# Altium footprint library LCC封装库.PcbLib: 3 footprints
Each footprint in its own frame and in the unit in brackets; x right, y up, seen from the top. Pads: shape width x height; smd on the part's side, far side on the other; paste and mask are expansions set on the pad; w line width, h text height; cw(c..) or ccw(c..) is an arc to the next point about the centre after c.
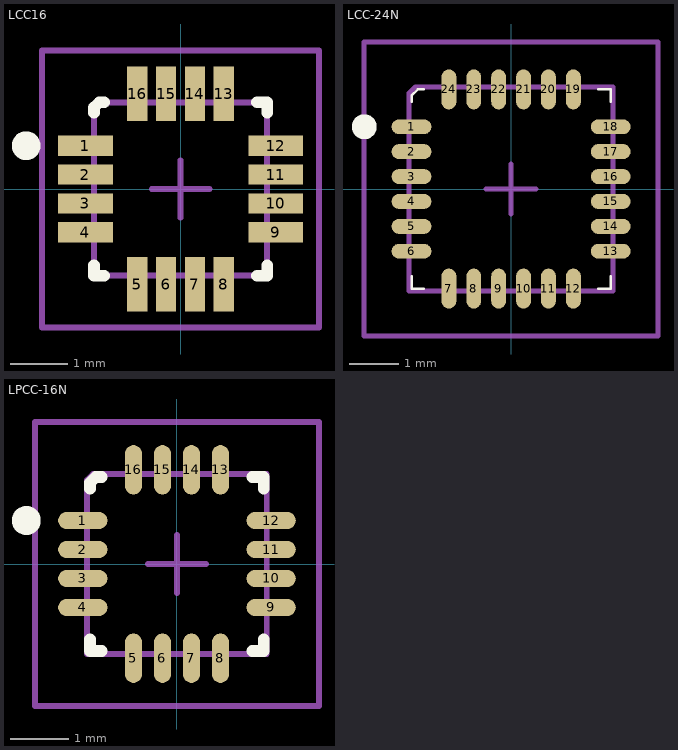
[diagram p0: the footprints below, top view; thin cyan lines are the x and y axes]

## LCC16 [mm] "LCC, 16-Pins, Body 3.0x3.0mm (max), Pitch 0.50mm, IPC Medium Density"
height 1
pads (16):
  rect 0.95x0.35 smd: 1(-1.65,0.75) 2(-1.65,0.25) 3(-1.65,-0.25) 4(-1.65,-0.75) 9(1.65,-0.75) 10(1.65,-0.25) 11(1.65,0.25) 12(1.65,0.75)
  rect 0.35x0.95 smd: 5(-0.75,-1.65) 6(-0.25,-1.65) 7(0.25,-1.65) 8(0.75,-1.65) 13(0.75,1.65) 14(0.25,1.65) 15(-0.25,1.65) 16(-0.75,1.65)
Top Overlay:
  circle w0.25: c-2.675,0.75 r0.125
  lines w0.2: -1.5,-1.325 -1.5,-1.5 -1.325,-1.5 ; -1.5,1.325 -1.5,1.412 -1.412,1.5 -1.325,1.5 ; 1.325,-1.5 1.5,-1.5 1.5,-1.325 ; 1.325,1.5 1.5,1.5 1.5,1.325
Mechanical 13:
  lines w0.1: -1.5,-1.5 1.5,-1.5 1.5,1.5 -1.412,1.5 -1.5,1.412 -1.5,-1.5
Mechanical 15:
  lines w0.1: -0.5,0 0.5,0 ; 0,-0.5 0,0.5 ; -2.4,-2.4 2.4,-2.4 2.4,2.4 -2.4,2.4 -2.4,-2.4
3D body: height 1, standoff 0, extent -1.5,-1.5 1.5,1.5

## LCC-24N [mm] "LCC, 24-Pins, Body 4.2x4.2mm (max), Pitch 0.50mm, IPC Medium Density"
height 0.9
pads (24):
  oval 0.8x0.3 smd: 1(-2,1.25) 2(-2,0.75) 3(-2,0.25) 4(-2,-0.25) 5(-2,-0.75) 6(-2,-1.25) 13(2,-1.25) 14(2,-0.75) 15(2,-0.25) 16(2,0.25) 17(2,0.75) 18(2,1.25)
  oval 0.3x0.8 smd: 7(-1.25,-2) 8(-0.75,-2) 9(-0.25,-2) 10(0.25,-2) 11(0.75,-2) 12(1.25,-2) 19(1.25,2) 20(0.75,2) 21(0.25,2) 22(-0.25,2) 23(-0.75,2) 24(-1.25,2)
Top Overlay:
  circle w0.25: c-2.95,1.25 r0.125
  lines w0.05: -2,-1.75 -2,-2 -1.75,-2 ; -2,1.75 -2,1.875 -1.875,2 -1.75,2 ; 1.75,-2 2,-2 2,-1.75 ; 1.75,2 2,2 2,1.75
Mechanical 13:
  lines w0.1: -2.05,-2.05 -2.05,1.925 -1.925,2.05 2.05,2.05 2.05,-2.05 -2.05,-2.05
Mechanical 15:
  lines w0.1: -0.5,0 0.5,0 ; 0,-0.5 0,0.5 ; -2.95,-2.95 -2.95,2.95 2.95,2.95 2.95,-2.95 -2.95,-2.95
3D body: height 0.91, standoff -0.01, extent -2.007,-2.01 2.013,2.01

## LPCC-16N [mm] "LCC, 16-Pins, Body 3.2x3.2mm (max), Pitch 0.50mm, IPC Medium Density"
height 0.9
pads (16):
  oval 0.85x0.3 smd: 1(-1.625,0.75) 2(-1.625,0.25) 3(-1.625,-0.25) 4(-1.625,-0.75) 9(1.625,-0.75) 10(1.625,-0.25) 11(1.625,0.25) 12(1.625,0.75)
  oval 0.3x0.85 smd: 5(-0.75,-1.625) 6(-0.25,-1.625) 7(0.25,-1.625) 8(0.75,-1.625) 13(0.75,1.625) 14(0.25,1.625) 15(-0.25,1.625) 16(-0.75,1.625)
Top Overlay:
  circle w0.25: c-2.6,0.75 r0.125
  lines w0.2: -1.5,-1.3 -1.5,-1.5 -1.3,-1.5 ; -1.5,1.3 -1.5,1.4 -1.4,1.5 -1.3,1.5 ; 1.3,-1.5 1.5,-1.5 1.5,-1.3 ; 1.3,1.5 1.5,1.5 1.5,1.3
Mechanical 13:
  lines w0.1: -1.55,-1.55 -1.55,1.45 -1.45,1.55 1.55,1.55 1.55,-1.55 -1.55,-1.55
Mechanical 15:
  lines w0.1: -0.5,0 0.5,0 ; 0,-0.5 0,0.5 ; -2.45,-2.45 -2.45,2.45 2.45,2.45 2.45,-2.45 -2.45,-2.45
3D body: height 0.91, standoff -0.01, extent -1.505,-1.499 1.505,1.511